# EAGLE library part MOTOR_DRIVER (library final_project_library)
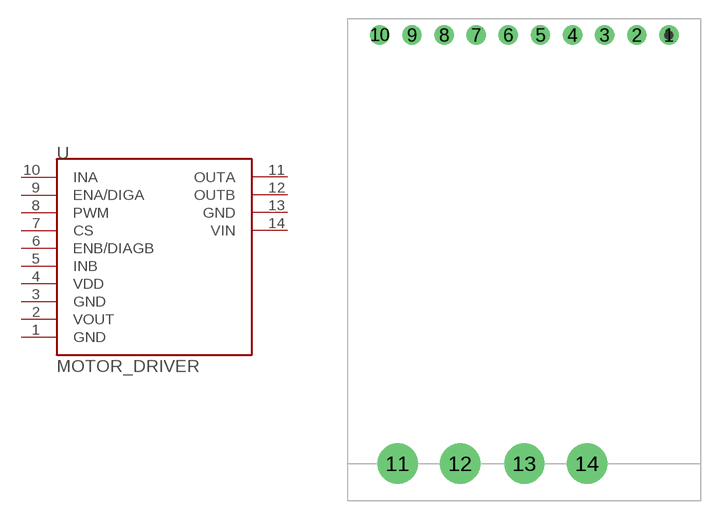
[diagram p0: symbol with the pads of VNH5019A_MOTORDRIVER_CARIER_POLOLU; footprint VNH5019A_MOTORDRIVER_CARIER_POLOLU]

Designator prefix -

## MOTOR_DRIVER  [VNH5019A_MOTORDRIVER_CARIER_POLOLU]
1  GND
2  VOUT
3  GND
4  VDD
5  INB
6  ENB/DIAGB
7  CS
8  PWM
9  ENA/DIGA
10  INA
11  OUTA
12  OUTB
13  GND
14  VIN

## Footprint VNH5019A_MOTORDRIVER_CARIER_POLOLU (pad centres in mm)
drill 1.02: 1 25.4,-1.27; 2 22.86,-1.27; 3 20.32,-1.27; 4 17.78,-1.27; 5 15.24,-1.27; 6 12.7,-1.27; 7 10.16,-1.27; 8 7.62,-1.27; 9 5.08,-1.27; 10 2.54,-1.27
drill 2.18: 11 3.937,-35.179; 12 8.89,-35.179; 13 13.97,-35.179; 14 18.923,-35.179